# EAGLE library part 17984-7PG-300 (library crw)
MICRO-CON-X® FIELD INSTALLABLE CONNECTOR Micro-Con-X panel mount connector; 7 position, B key, #26 gold plated P/C tail .187 style male pins; standard panel mount hardware; standard thermoplastic insert; 17984-7PG-300
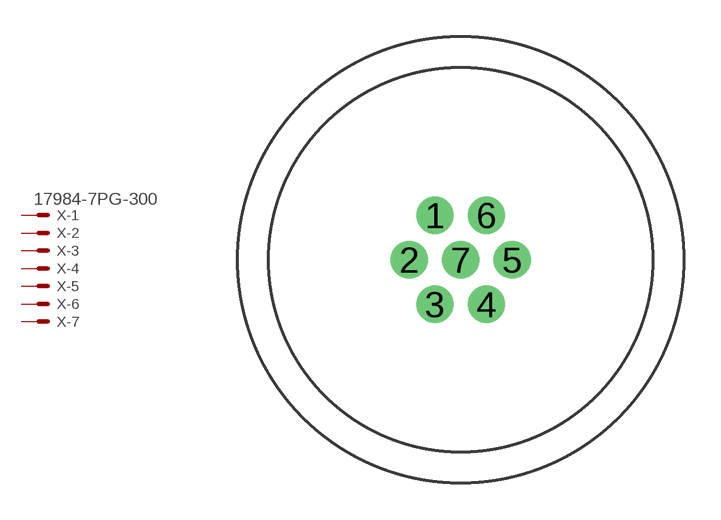
[diagram p0: symbol with the pads of 17984-7PG-300; footprint 17984-7PG-300]

Designator prefix X; gates -1=MV -2=M -3=M -4=M -5=M -6=M -7=M

## 17984-7PG-300  [17984-7PG-300]
1  -1:S  pas
2  -2:S  pas
3  -3:S  pas
4  -4:S  pas
5  -5:S  pas
6  -6:S  pas
7  -7:S  pas

## Footprint 17984-7PG-300 (pad centres in mm)
drill 1.016: 1 -1.054,1.826; 2 -2.108,0; 3 -1.054,-1.826; 4 1.054,-1.826; 5 2.108,0; 6 1.054,1.826; 7 0,0